# Altium schematic symbol library JST-4.SchLib: 1 symbol
Pins are listed as number, name and electrical type; pins without a type are passive.

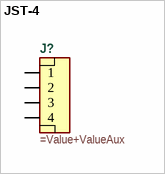
[diagram p0: symbol JST-4]

## JST-4
designator J?
=Description
pins: 1, 2, 3, 4